# EAGLE library part 61301011821 (library Wurth_Elektronik2)
WR-PHD 2.54mm Socket Header, 10 Pins =>Code : Con_BTB_SHD_2.54_1_THT_61301011821 <http://katalog.we-online.de/media/images/eican/Con_BTB_SHD_2.54_1_THT_6130xx11821_pf2.jpg> Details see: http://katalog.we-online.de/en/em/613_0xx_118_21 Created 2014-05-29, Karrer Zheng 2014 (C) Würth Elektronik
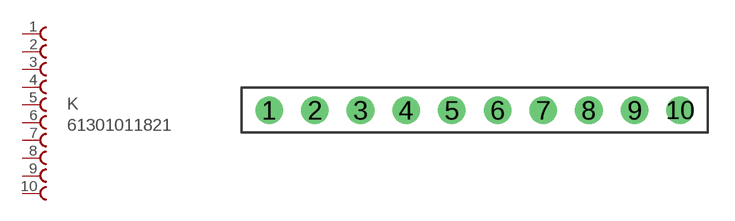
[diagram p94: symbol with the pads of 61301011821; footprint 61301011821]

Designator prefix K

## 61301011821  [61301011821]
1  1  pas
2  2  pas
3  3  pas
4  4  pas
5  5  pas
6  6  pas
7  7  pas
8  8  pas
9  9  pas
10  10  pas

## Footprint 61301011821 (pad centres in mm)
WR-PHD 2.54mm Socket Header, 10 Pins
drill 1.02: 1 -11.43,0; 2 -8.89,0; 3 -6.35,0; 4 -3.81,0; 5 -1.27,0; 6 1.27,0; 7 3.81,0; 8 6.35,0; 9 8.89,0; 10 11.43,0